# Altium schematic symbol library OT Library.SchLib: 560 symbols (part 4 of 5)
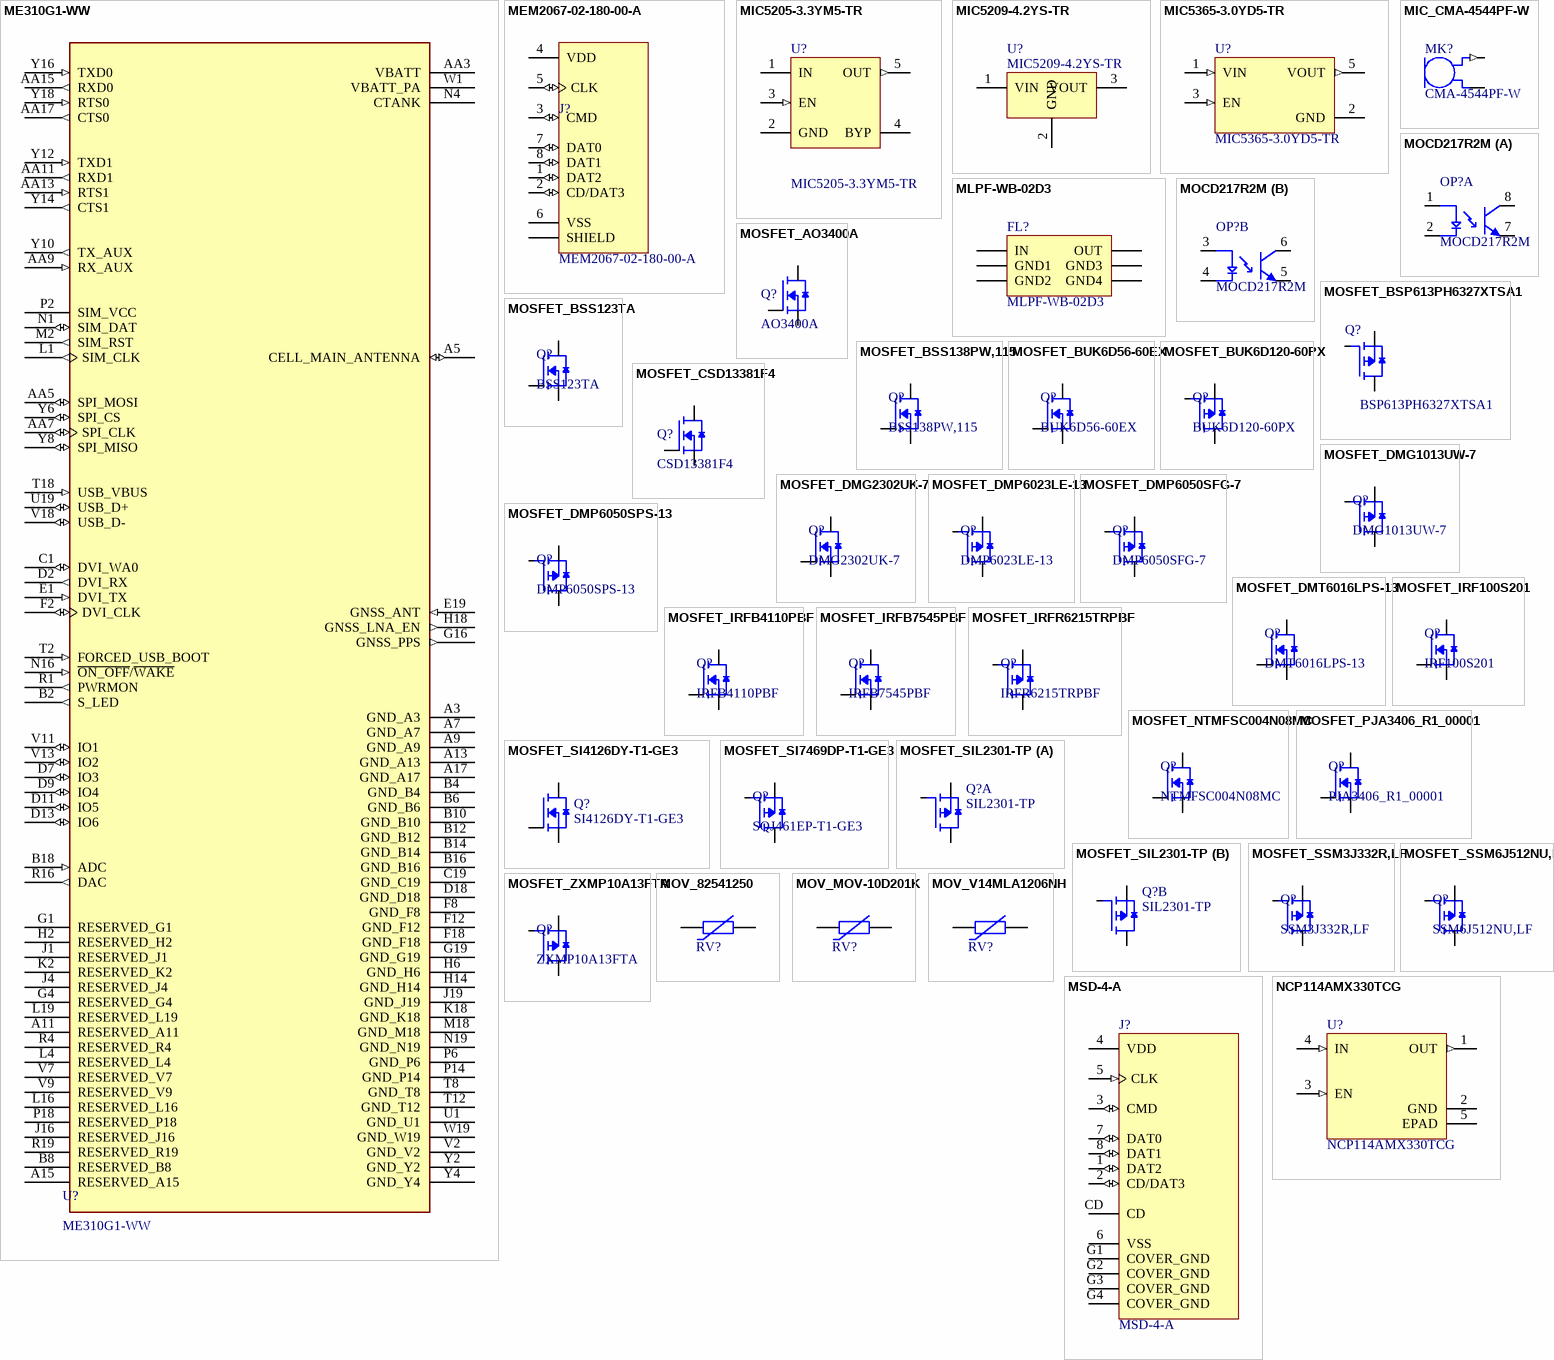
[diagram p21: symbols ME310G1-WW to NCP114AMX330TCG]

## ME310G1-WW
designator U?
LTE-M NB-IoT module Global variant; Manufacturer: Telit; Manufacturer Part Number: ME310G1-WW
footprint XCVR_ME310G1-WW_HW_1.0
pins: A3 GND_A3 (power), A5 CELL_MAIN_ANTENNA (io), A7 GND_A7 (power), A9 GND_A9 (power), A11 RESERVED_A11, A13 GND_A13 (power), A15 RESERVED_A15, A17 GND_A17 (power), AA3 VBATT (power), AA5 SPI_MOSI (io), AA7 SPI_CLK (io), AA9 RX_AUX (in), AA11 RXD1 (out), AA13 RTS1 (in), AA15 RXD0 (out), AA17 CTS0 (out), B2 S_LED (out), B4 GND_B4 (power), B6 GND_B6 (power), B8 RESERVED_B8, B10 GND_B10 (power), B12 GND_B12 (power), B14 GND_B14 (power), B16 GND_B16 (power), B18 ADC (in), C1 DVI_WA0 (io), C19 GND_C19 (power), D2 DVI_RX (out), D7 IO3 (io), D9 IO4 (io), D11 IO5 (io), D13 IO6 (io), D18 GND_D18 (power), E1 DVI_TX (in), E19 GNSS_ANT (in), F2 DVI_CLK (io), F8 GND_F8 (power), F12 GND_F12 (power), F18 GND_F18 (power), G1 RESERVED_G1, G4 RESERVED_G4, G16 GNSS_PPS (out), G19 GND_G19 (power), H2 RESERVED_H2, H6 GND_H6 (power), H14 GND_H14 (power), H18 GNSS_LNA_EN (out), J1 RESERVED_J1, J4 RESERVED_J4, J16 RESERVED_J16, J19 GND_J19 (power), K2 RESERVED_K2, K18 GND_K18 (power), L1 SIM_CLK (out), L4 RESERVED_L4, L16 RESERVED_L16, L19 RESERVED_L19, M2 SIM_RST (out), M18 GND_M18 (power), N1 SIM_DAT (io), N4 CTANK, N16 ~{ON_OFF}/~{WAKE} (in), N19 GND_N19 (power), P2 SIM_VCC (power), P6 GND_P6 (power), P14 GND_P14 (power), P18 RESERVED_P18, R1 PWRMON (out), R4 RESERVED_R4, R16 DAC (out), R19 RESERVED_R19, T2 FORCED_USB_BOOT (in), T8 GND_T8 (power), T12 GND_T12 (power), T18 USB_VBUS (in), U1 GND_U1 (power), U19 USB_D+ (io), V2 GND_V2 (power), V7 RESERVED_V7, V9 RESERVED_V9, V11 IO1 (io), V13 IO2 (io), V18 USB_D- (io), W1 VBATT_PA (power), W19 GND_W19 (power), Y2 GND_Y2 (power), Y4 GND_Y4 (power), Y6 SPI_CS (io), Y8 SPI_MISO (io), Y10 TX_AUX (out), Y12 TXD1 (in), Y14 CTS1 (out), Y16 TXD0 (in), Y18 RTS0 (in)

## MEM2067-02-180-00-A
designator J?
MICRO SD HINGED, SMT, 1.80MM PRO; Manufacturer: GCT; Manufacturer Part Number: MEM2067-02-180-00-A
footprint GCT_MEM2067-02-180-00-A_REVB (Footprint not found)
pins: 1 DAT2 (io), 2 CD/DAT3 (io), 3 CMD (io), 4 VDD (power), 5 CLK (io), 6 VSS (power), 7 DAT0 (io), 8 DAT1 (io), 9 SHIELD, 10 SHIELD, 11 SHIELD, 12 SHIELD

## MIC5205-3.3YM5-TR
designator U?
IC REG LINEAR 3.3V 150MA SOT23-5; Manufacturer: Microchip; LCSC Part: C37970; Manufacturer Part Number: MIC5205-3.3YM5-TR
footprint SOT-23-5 (SC-74A, SOT-753)
pins: 1 IN (power), 2 GND (power), 3 EN (in), 4 BYP, 5 OUT (out)

## MIC5209-4.2YS-TR
designator U?
IC REG LIN 4.2V 500MA SOT-223-3; Manufacturer: Microchip Technology; Manufacturer Part Number: MIC5209-4.2YS-TR; LCSC Part: C638643
footprint SOT-223 (TO-261-4, TO-261AA)
pins: 1 VIN, 2 GND, 3 VOUT, 4 GND

## MIC5365-3.0YD5-TR
designator U?
IC REG LINEAR 3V 150MA TSOT23-5; Manufacturer: Microchip Technology; Manufacturer Part Number: MIC5365-3.0YD5-TR; LCSC Part: C626097
footprint TSOT-23-5 (SOT-23-5 Thin, TSOT-23-5)
pins: 1 VIN (in), 2 GND (power), 3 EN (in), 5 VOUT (out)

## MIC_CMA-4544PF-W
designator MK?, comment CMA-4544PF-W
MIC COND ANLG OMNI -44DB 0.382"D; Manufacturer: Same Sky; Manufacturer Part Number: CMA-4544PF-W; LCSC Part: C22359702
footprint MIC_CMA-4544PF-W
pins: 1 OUT (out), 2 GND (power)

## MLPF-WB-02D3
designator FL?
2.4 GHZ LOW PASS FILTER MATCHED; Manufacturer: STMicroelectronics; Manufacturer Part Number: MLPF-WB-02D3; Datasheet: https://www.st.com/resource/en/datasheet/mlpf-wb-02d3.pdf
footprint MLPFWB02D3
pins: A1 OUT, A2 GND4, A3 IN, B1 GND3, B2 GND2, B3 GND1

## MOCD217R2M
designator OP?
OPTOISO 2.5KV 2CH TRANS 8SOIC; Manufacturer: onsemi; Manufacturer Part Number: MOCD217R2M; LCSC Part: C14315
footprint SOIC-8 (0.154", 3.90mm Width)
part A pins: 1 A, 2 C, 7 ET, 8 CT
part B pins: 3 A, 4 C, 5 ET, 6 CT

## MOSFET_AO3400A
designator Q?, comment AO3400A
MOSFET N-CH 30V 5.7A SOT23-3L; Manufacturer: Alpha & Omega Semiconductor Inc.; Drain to Source Voltage (Vdss): 5.7A (Ta); Manufacturer Part Number: AO3400A; Drain to Source Voltage (Vdss): 30 V; LCSC Part: C20917
footprint SOT-23-3 (TO-236-3, SC-59, SOT-23-3)
pins: 1 G, 2 S, 3 D

## MOSFET_BSP613PH6327XTSA1
designator Q?, comment BSP613PH6327XTSA1
MOSFET P-CH 60V 2.9A SOT223-4; Manufacturer: Infineon Technologies; Manufacturer Part Number: BSP613PH6327XTSA1; LCSC Part: C534578
footprint SOT-223-4 (SOT223, 4-Leads, Body 6.50x7.00mm (avg), Pitch 2.30mm)
pins: 1 G, 2 D, 3 S, 4 D

## MOSFET_BSS123TA
designator Q?, comment BSS123TA
MOSFET N-CH 100V 170MA SOT23-3; Manufacturer: Diodes Incorporated; Current - Continuous Drain (Id) @ 25°C: 170mA(Ta); Manufacturer Part Number: BSS123TA; Drain to Source Voltage (Vdss): 100V; LCSC Part: C435875
footprint SOT-23-3 (TO-236-3, SC-59, SOT-23-3)
pins: 1 G, 2 S, 3 D

## MOSFET_BSS138PW,115
designator Q?, comment BSS138PW,115
MOSFET N-CH 60V 320MA SOT323; Manufacturer: Nexperia USA Inc.; Current - Continuous Drain (Id) @ 25°C: 320mA (Ta); Manufacturer Part Number: BSS138PW,115; Drain to Source Voltage (Vdss): 60 V; LCSC Part: C193366
footprint SOT-323 (SC-70, SOT-323)
pins: 1 G, 2 S, 3 D

## MOSFET_BUK6D56-60EX
designator Q?, comment BUK6D56-60EX
MOSFET N-CH 60V 4A/11A 6DFN; Manufacturer: Nexperia USA Inc.; Current - Continuous Drain (Id) @ 25°C: 4A (Ta), 11A (Tc); Manufacturer Part Number: BUK6D56-60EX; Drain to Source Voltage (Vdss): 60 V; Datasheet: https://assets.nexperia.com/documents/data-sheet/BUK6D56-60E.pdf
footprint 6-UDFN (DFN2020MD-6)
pins: 1 D, 2 D, 3 G, 4 S, 5 D, 6 D, 7 D, 8 S

## MOSFET_BUK6D120-60PX
designator Q?, comment BUK6D120-60PX
MOSFET P-CH 60V 3A/8A 6DFN; Manufacturer: Nexperia USA Inc.; Drain to Source Voltage (Vdss): 3A (Ta), 8A (Tc); Manufacturer Part Number: BUK6D120-60PX; Drain to Source Voltage (Vdss): 60V
footprint 6-UDFN (DFN2020MD-6)
pins: 1 D, 2 D, 3 G, 4 S, 5 D, 6 D, 7 D, 8 S

## MOSFET_CSD13381F4
designator Q?, comment CSD13381F4
MOSFET N-CH 12V 2.1A 3PICOSTAR; Manufacturer: Texas Instruments; Drain to Source Voltage (Vdss): 2.1A (Ta); Manufacturer Part Number: CSD13381F4; Drain to Source Voltage (Vdss): 12 V; LCSC Part: C179868
footprint 3-PICOSTAR (3-XFDFN)
pins: 1 G, 2 S, 3 D

## MOSFET_DMG1013UW-7
designator Q?, comment DMG1013UW-7
MOSFET P-CH 20V 820MA SOT323; Manufacturer: Diodes Incorporated; Drain to Source Voltage (Vdss): 820mA (Ta); Manufacturer Part Number: DMG1013UW-7; Drain to Source Voltage (Vdss): 20 V; LCSC Part: C211434
footprint SOT-323 (SC-70, SOT-323)
pins: 1 G, 2 S, 3 D

## MOSFET_DMG2302UK-7
designator Q?, comment DMG2302UK-7
MOSFET N-CH 20V 2.8A SOT23; Manufacturer: Diodes Incorporated; Current - Continuous Drain (Id) @ 25°C: 2.8A (Ta); Manufacturer Part Number: DMG2302UK-7; Drain to Source Voltage (Vdss): 20V; LCSC Part: C460977
footprint SOT-23 (TO-236AB)
pins: 1 G, 2 S, 3 D

## MOSFET_DMP6023LE-13
designator Q?, comment DMP6023LE-13
MOSFET P-CH 60V 7A/18.2A SOT223; Manufacturer: Diodes Incorporated; Current - Continuous Drain (Id) @ 25°C: 7A (Tc); Manufacturer Part Number: DMP6023LE-13; Drain to Source Voltage (Vdss): 60V; LCSC Part: C154901
footprint SOT-223 (TO-261-4, TO-261AA)
pins: 1 G, 2 D, 3 S, 4 D

## MOSFET_DMP6050SFG-7
designator Q?, comment DMP6050SFG-7
MOSFET P-CH 60V 4.8A PWRDI3333-8; Manufacturer: Diodes Incorporated; Drain to Source Voltage (Vdss): 4.8A (Ta); Manufacturer Part Number: DMP6050SFG-7; Drain to Source Voltage (Vdss): 60 V; LCSC Part: C3279391
footprint 8-PowerVDFN (POWERDI3333-8)
pins: 1 S, 2 S, 3 S, 4 G, 5_6_7_8 D

## MOSFET_DMP6050SPS-13
designator Q?, comment DMP6050SPS-13
MOSFET P-CH 60V 5.7A PWRDI5060-8; Manufacturer: Diodes Incorporated; Drain to Source Voltage (Vdss): 5.7A (Ta); Manufacturer Part Number: DMP6050SPS-13; Drain to Source Voltage (Vdss): 60 V; LCSC Part: C3279412
footprint 8-PowerTDFN (PowerDI5060-8)
pins: 1 S, 2 S, 3 S, 4 G, 5_6_7_8 D

## MOSFET_DMT6016LPS-13
designator Q?, comment DMT6016LPS-13  (mechanical)
MOSFET N-CH 60V 10.6A PWRDI5060; Manufacturer: Diodes Incorporated; Current - Continuous Drain (Id) @ 25°C: 10.6A (Ta); Manufacturer Part Number: DMT6016LPS-13; Drain to Source Voltage (Vdss): 60 V; LCSC Part: C460055
footprint 8-PowerTDFN (PowerDI5060-8)
pins: 1 S, 2 S, 3 S, 4 G, 5_6_7_8 D

## MOSFET_IRF100S201
designator Q?, comment IRF100S201
MOSFET N-CH 100V 192A D2PAK; Manufacturer: Infineon Technologies; Drain to Source Voltage (Vdss): 100; Current - Continuous Drain (Id) @ 25°C: 192A (Tc); Manufacturer Part Number: IRF100S201; LCSC Part: C459928
footprint PG-TO263-3 (TO-263-3, D2PAK (2 Leads + Tab), TO-263AB)
pins: 1 G, 2 D, 3 S

## MOSFET_IRFB4110PBF
designator Q?, comment IRFB4110PBF
MOSFET N-CH 100V 120A TO220AB; Manufacturer: Infineon Technologies; Current - Continuous Drain (Id) @ 25°C: 120A (Tc); Manufacturer Part Number: IRFB4110PBF; Drain to Source Voltage (Vdss): 100V; LCSC Part: C2650
footprint TO-220-3 (TO-220AB)
pins: 1 G, 2 D, 3 S

## MOSFET_IRFB7545PBF
designator Q?, comment IRFB7545PBF
MOSFET N-CH 60V 95A TO220; Manufacturer: Infineon Technologies; Current - Continuous Drain (Id) @ 25°C: 95A (Tc); Manufacturer Part Number: IRFB7545PBF; Drain to Source Voltage (Vdss): 60V; LCSC Part: C2997913
footprint TO-220-3 (TO-220AB)
pins: 1 G, 2 D, 3 S

## MOSFET_IRFR6215TRPBF
designator Q?, comment IRFR6215TRPBF
MOSFET P-CH 150V 13A DPAK; Manufacturer: Infineon Technologies; Drain to Source Voltage (Vdss): 13A (Tc); Manufacturer Part Number: IRFR6215TRPBF; Drain to Source Voltage (Vdss): 150V; LCSC Part: C150936
footprint TO-252AA (TO-252-3, DPAK (2 Leads + Tab), SC-63)
pins: 1 G, 2 D, 3 S

## MOSFET_NTMFSC004N08MC
designator Q?, comment NTMFSC004N08MC
MOSFET N-CH 80V 86A/136A 8DFN; Manufacturer: onsemi; Current - Continuous Drain (Id) @ 25°C: 86A(Ta) 136(Tc); Manufacturer Part Number: NTMFSC004N08MC; Drain to Source Voltage (Vdss): 80 V; Datasheet: https://www.onsemi.com/pdf/datasheet/ntmfsc004n08mc-d.pdf
footprint 8-DFN (5x6.15) (8-PowerVDFN)
pins: 1 S, 2 S, 3 S, 4 G, 5 D, 6 D, 7 D, 8 D

## MOSFET_PJA3406_R1_00001
designator Q?, comment PJA3406_R1_00001
MOSFET N-CH 30V 4.4A SOT23-3; Manufacturer: Panjit International Inc.; Current - Continuous Drain (Id) @ 25°C: 4.4A (Ta); Manufacturer Part Number: PJA3406_R1_00001; Drain to Source Voltage (Vdss): 30V
footprint SOT-23-3 (TO-236-3, SC-59, SOT-23-3)
pins: 1 G, 2 S, 3 D

## MOSFET_SI4126DY-T1-GE3
designator Q?, comment SI4126DY-T1-GE3  (mechanical)
MOSFET N-CH 30V 39A 8-SOIC; Manufacturer: Vishay Siliconix; Current - Continuous Drain (Id) @ 25°C: 39A (Tc); Manufacturer Part Number: SI4126DY-T1-GE3; Drain to Source Voltage (Vdss): 30 V; LCSC Part: C143747
footprint SOIC-8 (0.154", 3.90mm Width)
pins: 1 S, 2 S, 3 S, 4 G, 5 D, 6 D, 7 D, 8 D

## MOSFET_SI7469DP-T1-GE3
designator Q?, comment SQJ461EP-T1-GE3
MOSFET P-CH 80V 28A PPAK SO-8; Manufacturer: Vishay Siliconix; Drain to Source Voltage (Vdss): 28A(Tc); Manufacturer Part Number: SQJ461EP-T1-GE3; Drain to Source Voltage (Vdss): 80V
footprint PowerPAK SO-8
pins: 1 S, 2 S, 3 S, 4 G, 5 D, 6 D, 7 D, 8 D, 9 D

## MOSFET_SIL2301-TP
designator Q?, comment SIL2301-TP
MOSFET P-CH 20V 2.3A SOT23-6L PACKA; Manufacturer: Micro Commercial Co; Manufacturer Part Number: SIL2301-TP; Drain to Source Voltage (Vdss): 20V; Drain to Source Voltage (Vdss): 2.3 A
footprint SOT-23-6
part A pins: 1 G, 5 S, 6 D
part B pins: 2 S, 3 G, 4 D

## MOSFET_SSM3J332R,LF
designator Q?, comment SSM3J332R,LF
MOSFET P-CH 30V 6A SOT23F; Manufacturer: Toshiba Semiconductor and Storage; Drain to Source Voltage (Vdss): 6A (Ta); Manufacturer Part Number: SSM3J332R,LF; Drain to Source Voltage (Vdss): 30 V; LCSC Part: C146367
footprint SOT-23F (SOT-23-3 Flat Leads)
pins: 1 G, 2 S, 3 D

## MOSFET_SSM6J512NU,LF
designator Q?, comment SSM6J512NU,LF
MOSFET P-CH 12V 10A 6UDFNB; Manufacturer: Toshiba Semiconductor and Storage; Manufacturer Part Number: SSM6J512NU,LF; LCSC Part: C7320745
footprint 6-UDFNB (6-WDFN Exposed Pad)
pins: 1 D, 2 D, 3 G, 4 S, 5 D, 6 D, 7 D, 8 S

## MOSFET_ZXMP10A13FTA
designator Q?, comment ZXMP10A13FTA
MOSFET P-CH 100V 600MA SOT23-3; Manufacturer: Diodes Incorporated; Drain to Source Voltage (Vdss): 600mA (Ta); Manufacturer Part Number: ZXMP10A13FTA; Drain to Source Voltage (Vdss): 100 V; LCSC Part: C50185
footprint SOT-23-3 (TO-236-3, SC-59, SOT-23-3)
pins: 1 G, 2 S, 3 D

## MOV_82541250
designator RV?, comment 82541250  (value not drawn)
VARISTOR 39V 200A 1206; Manufacturer: Wurth Elektronik; Maximum AC Volts: 25V; Maximum DC Volts: 30V; Manufacturer Part Number: 82541250; Varistor Voltage (Typ): 39V; Current - Surge: 200A
footprint MOV_1206 (SMD Varistor, 2-Leads, body 3.20x1.60mm)
pins: 1, 2

## MOV_MOV-10D201K
designator RV?, comment MOV-10D201K  (value not drawn)
VARISTOR 200V 2.5KA DISC 10MM; Manufacturer: Bourns Inc.; Manufacturer Part Number: MOV-10D201K
footprint DISC-10 (Disc 10mm)
pins: 1, 2

## MOV_V14MLA1206NH
designator RV?, comment V14MLA1206NH  (value not drawn)
VARISTOR 18.1V 150A 1206; Manufacturer: Littelfuse Inc.; Maximum AC Volts: 10V; Maximum DC Volts: 14V; Manufacturer Part Number: V14MLA1206NH; Varistor Voltage (Typ): 18.1V; Current - Surge: 150A
footprint MOV_1206 (SMD Varistor, 2-Leads, body 3.20x1.60mm)
pins: 1, 2

## MSD-4-A
designator J?
MICRO SD CARD CONNECTOR, 9 POSIT; Manufacturer: CUI Devices; Manufacturer Part Number: MSD-4-A
footprint CUI_MSD-4-A
pins: 1 DAT2 (io), 2 CD/DAT3 (io), 3 CMD (io), 4 VDD (power), 5 CLK (in), 6 VSS (power), 7 DAT0 (io), 8 DAT1 (io), CD, G1 COVER_GND (power), G2 COVER_GND (power), G3 COVER_GND (power), G4 COVER_GND (power)

## NCP114AMX330TCG
designator U?
IC REG LINEAR 3.3V 300MA 4UDFN; Manufacturer: ON Semiconductor; Manufacturer Part Number: NCP114AMX330TCG; LCSC Part: C133056
footprint 4-UDFN Exposed Pad (4-UDFN (1.0x1.0))
pins: 1 OUT (out), 2 GND (power), 3 EN (in), 4 IN (in), 5 EPAD

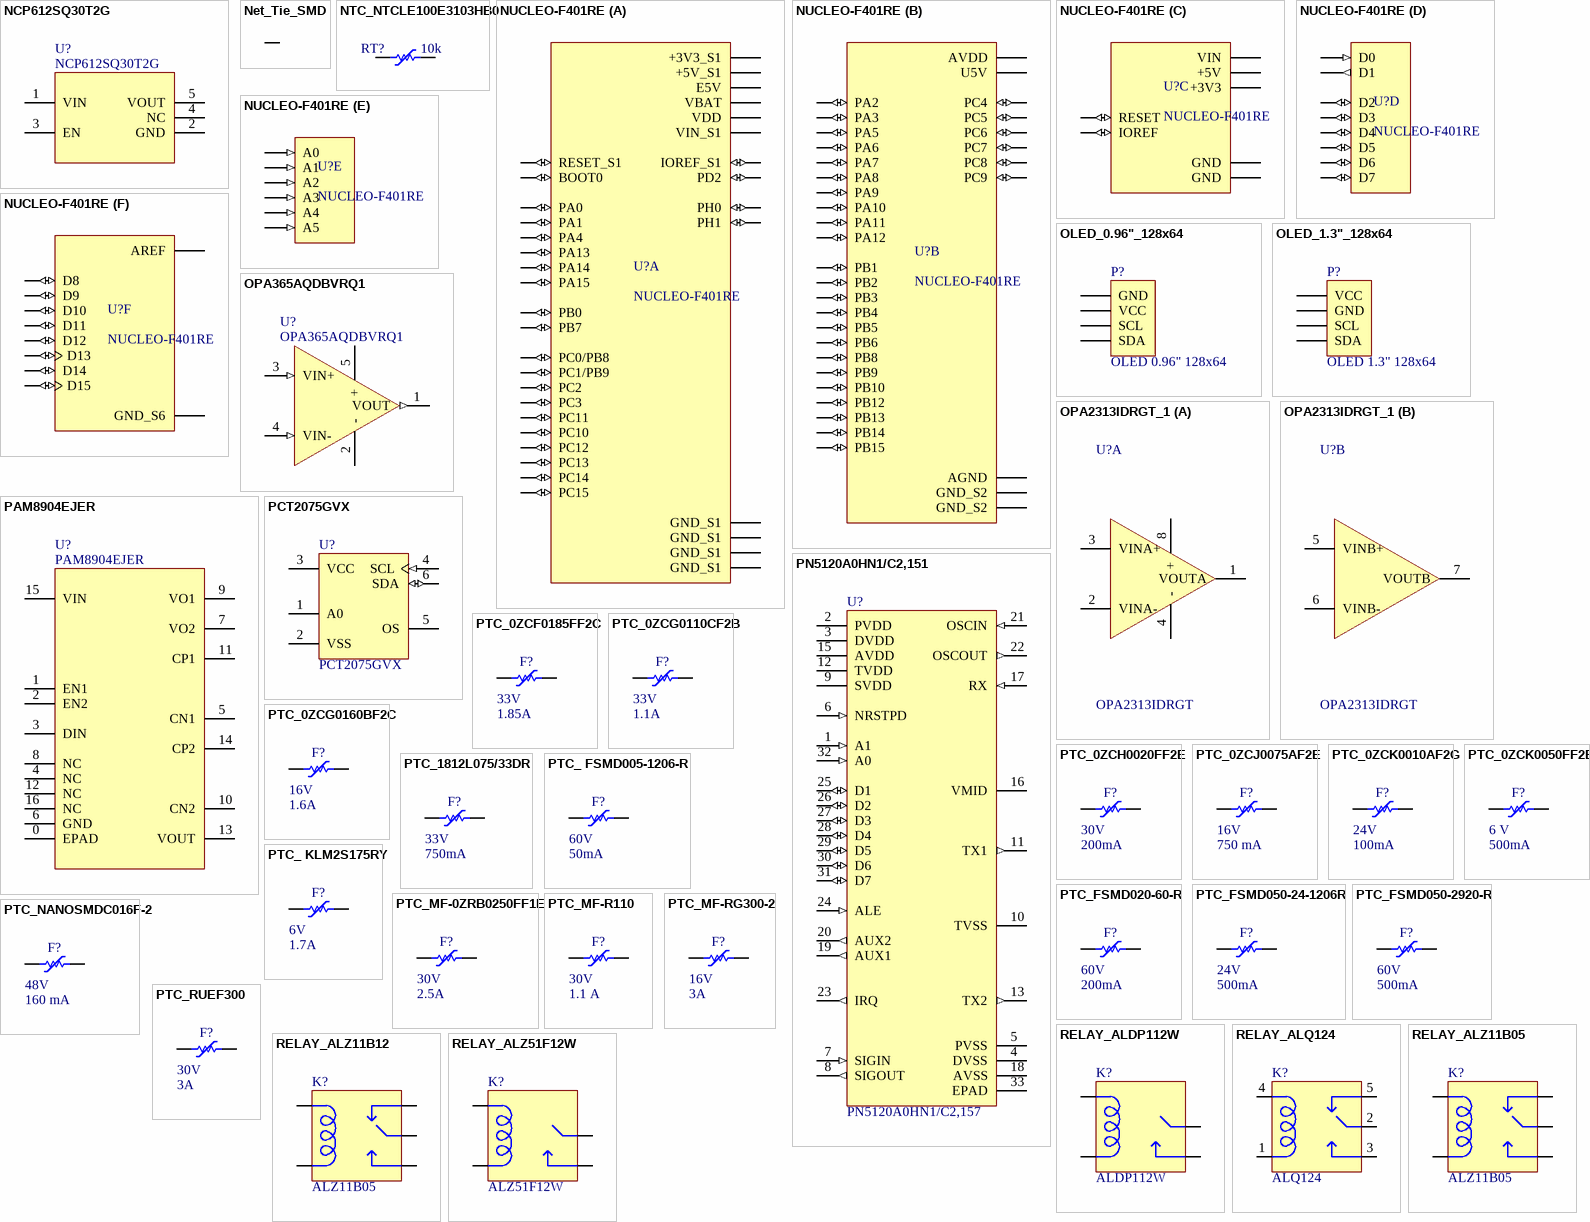
[diagram p15: symbols NCP612SQ30T2G to RELAY_ALZ51F12W]

## NCP612SQ30T2G
designator U?
IC REG LINEAR 3V 100MA SC88A; Manufacturer: ON Semiconductor; Manufacturer Part Number: NCP612SQ30T2G; LCSC Part: C463355
footprint SC-70-5 (Footprint not found)
pins: 1 VIN, 2 GND, 3 EN, 4 NC, 5 VOUT

## Net_Tie_SMD
designator NET?, comment Net Tie  (value not drawn)  (net tie)
footprint NET_TIE_SMD
pins: 1, 2

## NTC_NTCLE100E3103HB0
designator RT?, comment Resistance in Ohms @ 25°C: 10k  (hidden comment: NTCLE100E3103HB0)
THERMISTOR NTC 10KOHM 3977K BEAD; Manufacturer: Vishay Beyschlag/Draloric/BC Components; Manufacturer Part Number: NTCLE100E3103HB0; Datasheet: https://www.vishay.com/docs/29049/ntcle100.pdf
footprint NTCLE100E3103HB0
pins: 1, 2

## NUCLEO-F401RE
designator U?
NUCLEO-64 STM32F401RE EVAL BRD; Manufacturer: STMicroelectronics; Manufacturer Part Number: NUCLEO-F401RE
footprint ST_NUCLEO-F401RE
part A pins: 7_1 PC10 (io), 7_2 PC11 (io), 7_3 PC12 (io), 7_4 PD2 (io), 7_5 VDD (power), 7_6 E5V (power), 7_7 BOOT0 (io), 7_8 GND_S1 (power), 7_12 IOREF_S1 (io), 7_13 PA13 (io), 7_14 RESET_S1 (io), 7_15 PA14 (io), 7_16 +3V3_S1 (power), 7_17 PA15 (io), 7_18 +5V_S1 (power), 7_19 GND_S1 (power), 7_20 GND_S1 (power), 7_21 PB7 (io), 7_22 GND_S1 (power), 7_23 PC13 (io), 7_24 VIN_S1 (power), 7_25 PC14 (io), 7_27 PC15 (io), 7_28 PA0 (io), 7_29 PH0 (io), 7_30 PA1 (io), 7_31 PH1 (io), 7_32 PA4 (io), 7_33 VBAT (power), 7_34 PB0 (io), 7_35 PC2 (io), 7_36 PC1/PB9 (io), 7_37 PC3 (io), 7_38 PC0/PB8 (io)
part B pins: 10_1 PC9 (io), 10_2 PC8 (io), 10_3 PB8 (io), 10_4 PC6 (io), 10_5 PB9 (io), 10_6 PC5 (io), 10_7 AVDD (power), 10_8 U5V (power), 10_9 GND_S2 (power), 10_11 PA5 (io), 10_12 PA12 (io), 10_13 PA6 (io), 10_14 PA11 (io), 10_15 PA7 (io), 10_16 PB12 (io), 10_17 PB6 (io), 10_19 PC7 (io), 10_20 GND_S2 (power), 10_21 PA9 (io), 10_22 PB2 (io), 10_23 PA8 (io), 10_24 PB1 (io), 10_25 PB10 (io), 10_26 PB15 (io), 10_27 PB4 (io), 10_28 PB14 (io), 10_29 PB5 (io), 10_30 PB13 (io), 10_31 PB3 (io), 10_32 AGND (power), 10_33 PA10 (io), 10_34 PC4 (io), 10_35 PA2 (io), 10_37 PA3 (io)
part C pins: 6_2 IOREF (io), 6_3 RESET (io), 6_4 +3V3 (power), 6_5 +5V (power), 6_6 GND (power), 6_7 GND (power), 6_8 VIN (power)
part D pins: 9_1 D0 (in), 9_2 D1 (out), 9_3 D2 (io), 9_4 D3 (io), 9_5 D4 (io), 9_6 D5 (io), 9_7 D6 (io), 9_8 D7 (io)
part E pins: 8_1 A0 (in), 8_2 A1 (in), 8_3 A2 (in), 8_4 A3 (in), 8_5 A4 (in), 8_6 A5 (in)
part F pins: 5_1 D8 (io), 5_2 D9 (io), 5_3 D10 (io), 5_4 D11 (io), 5_5 D12 (io), 5_6 D13 (io), 5_7 GND_S6 (power), 5_8 AREF (power), 5_9 D14 (io), 5_10 D15 (io)

## OLED_0.96"_128x64
designator P?, comment OLED 0.96" 128x64
OLED 128x64 0.96" I2C; Manufacturer Part Number: 128x64 0.96 inç OLED Grafik Ekran 4 Pin IS-I2C; Manufacturer: DirencNet; Link: https://www.direnc.net/128x64-oled-4pin-is-spi-lcd-display
footprint Header 1x4 male (2.54mm)
footprint OLED_0.96"_128x64
pins: 1 GND, 2 VCC, 3 SCL, 4 SDA

## OLED_1.3"_128x64
designator P?, comment OLED 1.3" 128x64
OLED 128x64 1.3" I2C; Manufacturer Part Number: 128x64 1.3 inç OLED Grafik Ekran 4 Pin IS-I2C; Manufacturer: DirencNet; Link: https://www.direnc.net/128x64-1-3-inch-oled-grafik-ekran-i2c
footprint Header 1x4 male (2.54mm)
footprint OLED_1.3"_128x64
pins: 1 VCC, 2 GND, 3 SCL, 4 SDA

## OPA365AQDBVRQ1
designator U?
IC OPAMP GP 1 CIRCUIT SOT23-5; Manufacturer: Texas Instruments; Manufacturer Part Number: OPA365AQDBVRQ1; LCSC Part: C485978
footprint SOT-23-5 (SC-74A, SOT-753)
pins: 1 VOUT (out), 2 - (power), 3 VIN+ (in), 4 VIN- (in), 5 + (power)

## OPA2313IDRGT_1
designator U?, comment OPA2313IDRGT
IC OPAMP GP 2 CIRCUIT 8SON; Manufacturer: Texas Instruments; Manufacturer Part Number: OPA2313IDRGT
footprint 8-WFDFN (3x3) Exposed Pad (8-SON (3x3))
part A pins: 1 VOUTA, 2 VINA-, 3 VINA+, 4 -, 8 +
part B pins: 5 VINB+, 6 VINB-, 7 VOUTB

## PAM8904EJER
designator U?
IC PIEZO SOUNDER DRVR 16UQFN; Manufacturer: Diodes; Manufacturer Part Number: PAM8904EJER; LCSC Part: C510549
footprint 16-UFQFN Exposed Pad
pins: 0 EPAD, 1 EN1, 2 EN2, 3 DIN, 4 NC, 5 CN1, 6 GND, 7 VO2, 8 NC, 9 VO1, 10 CN2, 11 CP1, 12 NC, 13 VOUT, 14 CP2, 15 VIN, 16 NC

## PCT2075GVX
designator U?
SENSOR DIGITAL -55C-125C 6TSOP; Manufacturer: NXP USA Inc.; Manufacturer Part Number: PCT2075GVX
footprint 6-TSOP (SC-74, SOT-457)
pins: 1 A0, 2 VSS (power), 3 VCC (power), 4 SCL (in), 5 OS, 6 SDA (io)

## PN5120A0HN1/C2,151
designator U?, comment PN5120A0HN1/C2,157
IC RFID RDR/TRAN 13.56MZ 32HVQFN; Manufacturer: NXP USA Inc.; Manufacturer Part Number: PN5120A0HN1/C2,157
footprint 32-VFQFN Exposed Pad (32-HVQFN (5x5))
pins: 1 A1 (in), 2 PVDD (power), 3 DVDD (power), 4 DVSS, 5 PVSS, 6 NRSTPD (in), 7 SIGIN (in), 8 SIGOUT (out), 9 SVDD (power), 10 TVSS (power), 11 TX1 (out), 12 TVDD (power), 13 TX2 (out), 14 TVSS_2 (power) hidden, 15 AVDD (power), 16 VMID (power), 17 RX (in), 18 AVSS (power), 19 AUX1 (out), 20 AUX2 (out), 21 OSCIN (in), 22 OSCOUT (out), 23 IRQ (out), 24 ALE (in), 25 D1 (io), 26 D2 (io), 27 D3 (io), 28 D4 (io), 29 D5 (io), 30 D6 (io), 31 D7 (io), 32 A0 (in), 33 EPAD

## PTC_0ZCF0185FF2C
designator F?, comment Voltage - Max: 33V  Current - Hold (Ih) (Max): 1.85A  (hidden comment: 0ZCF0185FF2C)
PTC RESET FUSE 33V 1.85A 2920; Manufacturer: Bel Fuse Inc.; Manufacturer Part Number: 0ZCF0185FF2C; Datasheet: https://www.belfuse.com/resources/datasheets/circuitprotection/ds-cp-0zcf-series.pdf; LCSC Part: C70139
footprint PTC_2920 (2920 SMT PPTC)
pins: 1, 2

## PTC_0ZCG0110CF2B
designator F?, comment Voltage - Max: 33V  Current - Hold (Ih) (Max): 1.1A  (hidden comment: 0ZCG0110CF2B)
PTC RESET FUSE 33V 1.1A 1812; Manufacturer: Bel Fuse Inc.; Manufacturer Part Number: 0ZCG0110CF2B
footprint PTC_1812 (0.179" L x 0.128" W (4.55mm x 3.24mm))
pins: 1, 2

## PTC_0ZCG0160BF2C
designator F?, comment Voltage - Max: 16V  Current - Hold (Ih) (Max): 1.6A  (hidden comment: 0ZCG0160BF2C)
PTC RESET FUSE 16V 1.6A 1812; Manufacturer: Bel Fuse Inc.; Manufacturer Part Number: 0ZCG0160BF2C; LCSC Part: C3762509
footprint PTC_1812 (0.179" L x 0.128" W (4.55mm x 3.24mm))
pins: 1, 2

## PTC_0ZCH0020FF2E
designator F?, comment Voltage - Max: 30V  Current - Hold (Ih) (Max): 200mA  (hidden comment: 0ZCH0020FF2E)
PTC RESET FUSE 30V 200MA 1210; Manufacturer: Bel Fuse Inc.; Manufacturer Part Number: 0ZCH0020FF2E; Datasheet: https://www.belfuse.com/resources/datasheets/circuitprotection/ds-cp-0zch-series.pdf
footprint PTC_1210 (0.127" L x 0.102" W (3.22mm x 2.58mm))
pins: 1, 2

## PTC_0ZCJ0075AF2E
designator F?, comment Voltage - Max: 16V  Current - Hold (Ih) (Max): 750 mA  (hidden comment: 0ZCJ0075AF2E)
PTC RESET FUSE 16V 750MA 1206; Manufacturer: Bel Fuse Inc.; Manufacturer Part Number: 0ZCJ0075AF2E; LCSC Part: C3761319
footprint PTC_1206 (0.126" L x 0.063" W (3.20mm x 1.60mm))
pins: 1, 2

## PTC_0ZCK0010AF2G
designator F?, comment Voltage - Max: 24V  Current - Hold (Ih) (Max): 100mA  (hidden comment: 0ZCK0010AF2G)
PTC RESET FUSE 24V 100MA 0805; Manufacturer: Bel Fuse Inc.; Manufacturer Part Number: 0ZCK0010AF2G; LCSC Part: C6355700
footprint PTC_0805
pins: 1, 2

## PTC_0ZCK0050FF2E
designator F?, comment Voltage - Max: 6 V  Current - Hold (Ih) (Max): 500mA  (hidden comment: 0ZCK0050FF2E)
PTC RESET FUSE 6V 500MA 0805; Manufacturer: Bel Fuse Inc.; Manufacturer Part Number: 0ZCK0050FF2E; Datasheet: https://www.belfuse.com/resources/datasheets/circuitprotection/ds-cp-0zck-series.pdf
footprint PTC_0805
pins: 1, 2

## PTC_1812L075/33DR
designator F?, comment Voltage - Max: 33V  Current - Hold (Ih) (Max): 750mA  (hidden comment: 1812L075/33DR)
PTC RESET FUSE 33V 750MA 1812; Manufacturer: Bel Fuse Inc.; Manufacturer Part Number: 1812L075/33DR; LCSC Part: C151170
footprint PTC_1812 (0.179" L x 0.128" W (4.55mm x 3.24mm))
pins: 1, 2

## PTC_ FSMD005-1206-R
designator F?, comment Voltage - Max: 60V  Current - Hold (Ih) (Max): 50mA  (hidden comment: FSMD005-1206-R)
PTC RESET FUSE 60V 50MA 1206; Manufacturer: Bel Fuse Inc.; Manufacturer Part Number: FSMD005-1206-R
footprint PTC_1206 (0.126" L x 0.063" W (3.20mm x 1.60mm))
pins: 1, 2

## PTC_ KLM2S175RY
designator F?, comment Voltage - Max: 6V  Current - Hold (Ih) (Max): 1.7A  (hidden comment: KLM2S175RY)
PTC RESET FUSE 6V 1.7A 0805; Manufacturer: Bel Fuse Inc.; Manufacturer Part Number: KLM2S175RY
footprint PTC_0805
pins: 1, 2

## PTC_FSMD020-60-R
designator F?, comment Voltage - Max: 60V  Current - Hold (Ih) (Max): 200mA  (hidden comment: FSMD020-60-R)
PTC RESET FUSE 60V 200MA 1812; Manufacturer: Fuzetec; Manufacturer Part Number: FSMD020-60-R
footprint PTC_1812 (0.179" L x 0.128" W (4.55mm x 3.24mm))
pins: 1, 2

## PTC_FSMD050-24-1206R
designator F?, comment Voltage - Max: 24V  Current - Hold (Ih) (Max): 500mA  (hidden comment: FSMD050-24-1206R)
PTC RESET FUSE 24V 500MA 1206; Manufacturer: Bel Fuse Inc.; Manufacturer Part Number: FSMD050-24-1206R
footprint PTC_1206 (0.126" L x 0.063" W (3.20mm x 1.60mm))
pins: 1, 2

## PTC_FSMD050-2920-R
designator F?, comment Voltage - Max: 60V  Current - Hold (Ih) (Max): 500mA  (hidden comment: FSMD050-2920-R)
PTC RESET FUSE 60V 500MA 2920; Manufacturer: Fuzetec; Manufacturer Part Number: FSMD050-2920-R
footprint PTC_2920 (2920 SMT PPTC)
pins: 1, 2

## PTC_MF-0ZRB0250FF1E
designator F?, comment Voltage - Max: 30V  Current - Hold (Ih) (Max): 2.5A  (hidden comment: 0ZRB0250FF1E)
PTC RESET FUSE 30V 2.5A RADIAL; Manufacturer: Bel Fuse Inc.; Manufacturer Part Number: 0ZRB0250FF1E; LCSC Part: C3761262
footprint PTC_DISC110 (Tyco_RKEF110)
pins: 1, 2

## PTC_MF-R110
designator F?, comment Voltage - Max: 30V  Current - Hold (Ih) (Max): 1.1 A  (hidden comment: MF-R110)
PTC RESET FUSE 30V 1.1A RADIAL; Manufacturer: Bourns Inc.; Manufacturer Part Number: MF-R110; LCSC Part: C208481
footprint PTC_DISC110 (Tyco_RKEF110)
pins: 1, 2

## PTC_MF-RG300-2
designator F?, comment Voltage - Max: 16V  Current - Hold (Ih) (Max): 3A  (hidden comment: FRG300-16F)
PTC RESET FUSE 16V 3A RADIAL; Manufacturer: RFE/Fuzetec; Manufacturer Part Number: FRG300-16F; LCSC Part: C2687068
footprint PTC_7.1x3.0x5.1 (0.280" L x 0.118" W (7.10mm x 3.00mm))
pins: 1, 2

## PTC_NANOSMDC016F-2
designator F?, comment Voltage - Max: 48V  Current - Hold (Ih) (Max): 160 mA  (hidden comment: NANOSMDC016F-2)
PTC RESET FUSE 48V 160MA 1206; Manufacturer: Littelfuse Inc.; Manufacturer Part Number: NANOSMDC016F-2; Datasheet: https://www.belfuse.com/resources/datasheets/circuitprotection/ds-cp-0zcf-series.pdf
footprint PTC_1206 (0.126" L x 0.063" W (3.20mm x 1.60mm))
pins: 1, 2

## PTC_RUEF300
designator F?, comment Voltage - Max: 30V  Current - Hold (Ih) (Max): 3A  (hidden comment: RUEF300)
PTC RESET FUSE 30V 3A RADIAL; Manufacturer: Littelfuse Inc.; Manufacturer Part Number: RUEF300; LCSC Part: C315961
footprint PTC_DISC160 (LittleFuse_RKEF160)
pins: 1, 2

## RELAY_ALDP112W
designator K?, comment ALDP112W
RELAY GEN PURPOSE SPST 5A 12V; Manufacturer: Panasonic Electric Works; Coil Voltage: 12VDC; Contact Form: SPST-NO (1 Form A); Switching Voltage: 277VAC - Max; Manufacturer Part Number: ALDP112W; Contact Rating (Current): 5A; LCSC Part: C115718
footprint RELAY_ALDP11
pins: 1 C1, 2 C2, 3 C, 4 NO

## RELAY_ALQ124
designator K?, comment ALQ124
RELAY GEN PURPOSE SPDT 10A 24V; Manufacturer: Panasonic Electric Works; Coil Voltage: 24VDC; Contact Form: SPDT (1 Form C); Switching Voltage: 250VAC - Max; Manufacturer Part Number: ALQ124; Contact Rating (Current): 10A
footprint RELAY_ALQ105
pins: 1 C2, 2 C, 3 NO, 4 C1, 5 NC

## RELAY_ALZ11B05
designator K?, comment ALZ11B05
RELAY GEN PURPOSE SPDT 16A 5V; Manufacturer: Panasonic Electric Works; Coil Voltage: 5VDC; Contact Form: SPDT (1 Form C); Switching Voltage: 440VAC - Max; Manufacturer Part Number: ALZ11B05; Contact Rating (Current): 16A
footprint RELAY_ALZ_C
pins: 1 C1, 2 NC, 3 C, 4 NO, 5 NO, 6 C, 7 NC, 8 C2

## RELAY_ALZ11B12
designator K?, comment ALZ11B05
RELAY GEN PURPOSE SPDT 16A 12V; Manufacturer: Panasonic Electric Works; Coil Voltage: 12VDC; Contact Form: SPDT (1 Form C); Switching Voltage: 440VAC - Max; Manufacturer Part Number: ALZ11B05; Contact Rating (Current): 16A
footprint RELAY_ALZ_C
pins: 1 NO, 2 C, 3 NC, 4 C1, 5 C2, 6 NC, 7 C, 8 NO

## RELAY_ALZ51F12W
designator K?, comment ALZ51F12W
RELAY GEN PURPOSE SPST 16A 12V; Manufacturer: Panasonic Electric Works; Coil Voltage: 12VDC; Contact Form: SPST-NO (1 Form A); Switching Voltage: 440VAC - Max; Manufacturer Part Number: ALZ51F12W; Contact Rating (Current): 16A
footprint RELAY_ALZ_A
pins: 1 C, 2 NO, 3 C1, 4 C2, 5 NO, 6 C

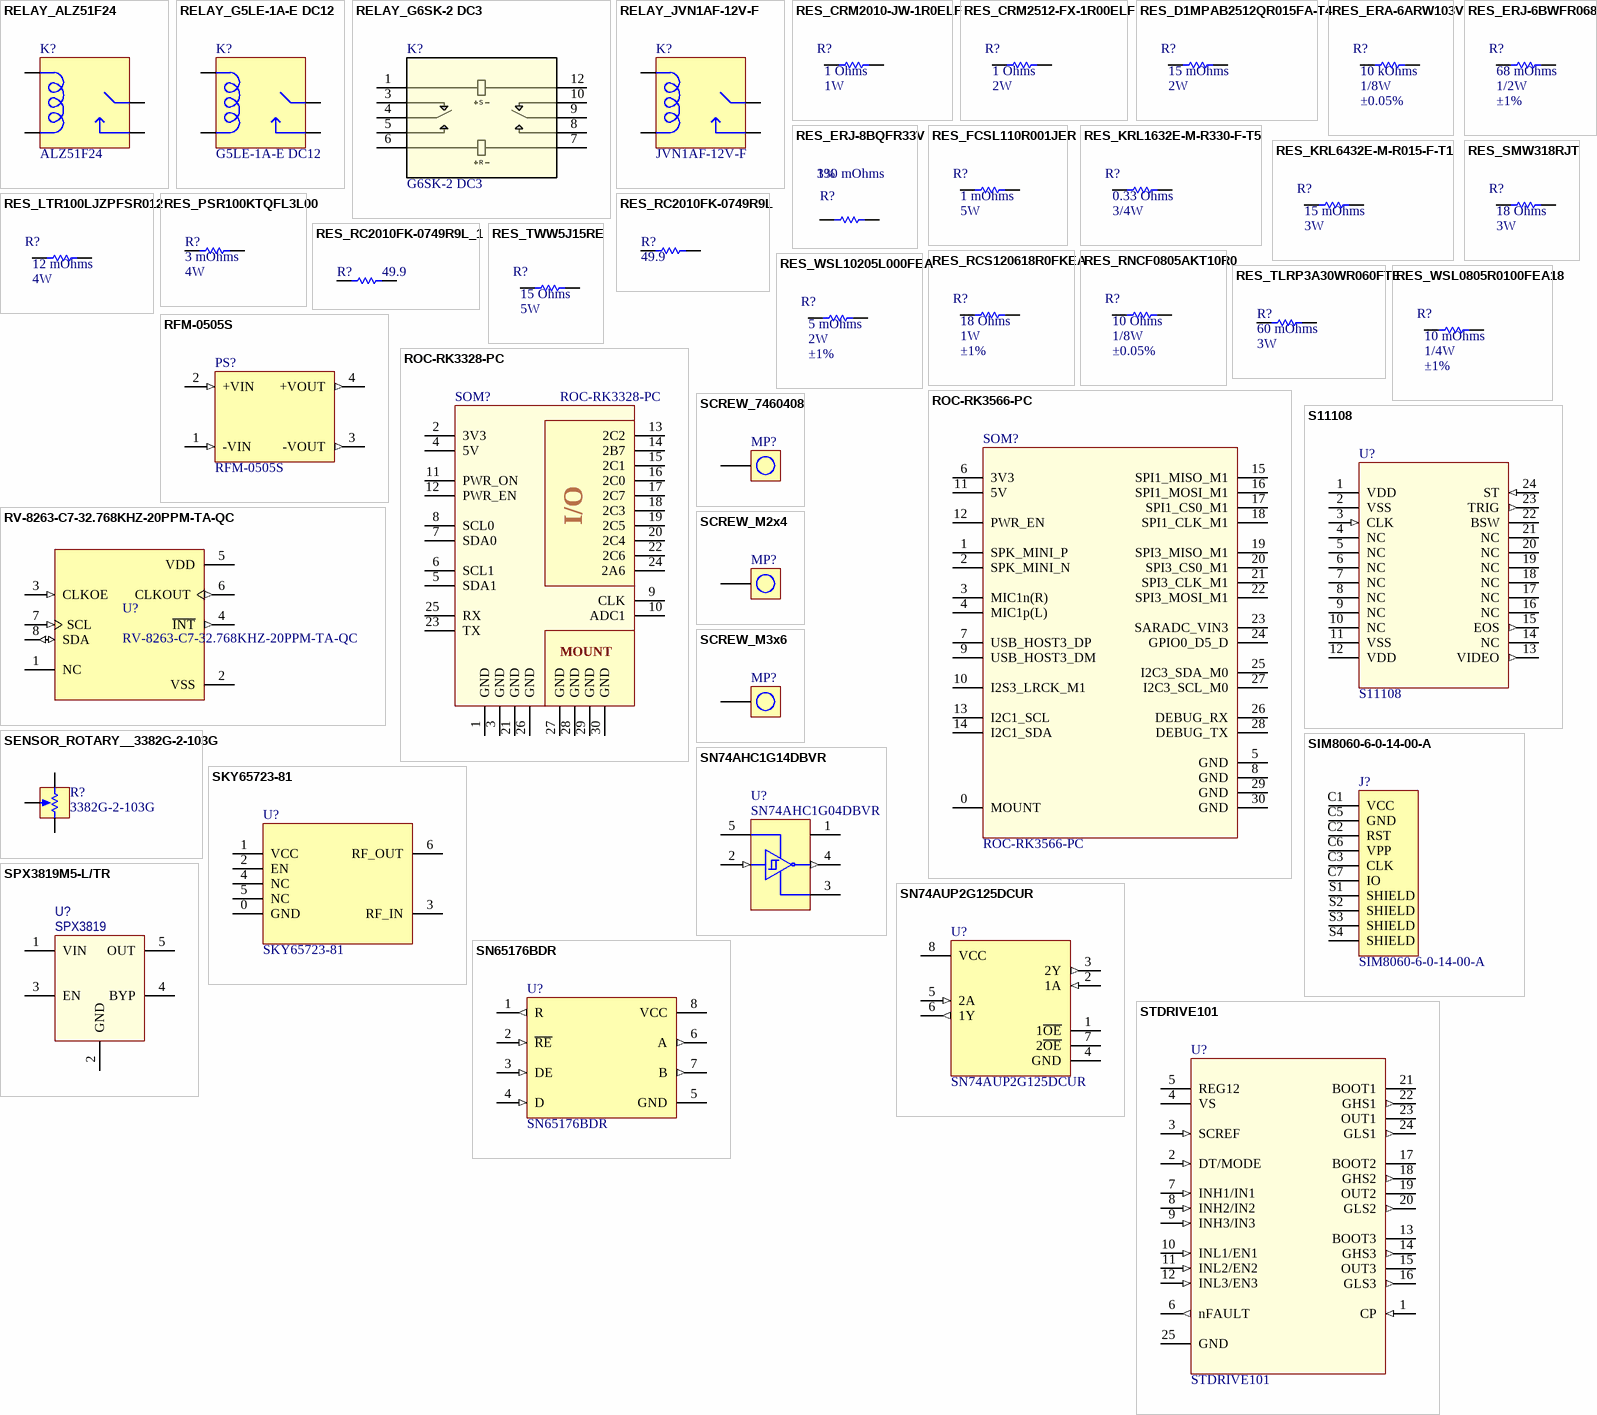
[diagram p16: symbols RELAY_ALZ51F24 to STDRIVE101]

## RELAY_ALZ51F24
designator K?, comment ALZ51F24
RELAY GEN PURPOSE SPST 16A 24V; Manufacturer: Panasonic Electric Works; Coil Voltage: 24VDC; Contact Form: SPST-NO (1 Form A); Switching Voltage: 440VAC - Max; Manufacturer Part Number: ALZ51F24; Contact Rating (Current): 16A
footprint RELAY_ALZ_A
pins: 1 C, 2 NO, 3 C1, 4 C2, 5 NO, 6 C

## RELAY_G5LE-1A-E DC12
designator K?, comment G5LE-1A-E DC12
RELAY GEN PURPOSE SPST 16A 12V; Manufacturer: Omron Electronics Inc-EMC Div; Coil Voltage: 12VDC; Contact Form: SPST-NO (1 Form A); Manufacturer Part Number: G5LE-1A-E DC12; Contact Rating (Current): 16A
footprint Relay_G5LE
pins: 1 COM, 2 C, 3 NO, 5 C

## RELAY_G6SK-2 DC3
designator K?, comment G6SK-2 DC3
RELAY TELECOM DPDT 2A 3V; Manufacturer: Omron Electronics Inc-EMC Div; LCSC Part: C2896754; Manufacturer Part Number: G6SK-2 DC3
footprint RELAY_G6SK-2_OMR
pins: 1, 3, 4, 5, 6, 7, 8, 9, 10, 12
text: S; R

## RELAY_JVN1AF-12V-F
designator K?, comment JVN1AF-12V-F
RELAY GEN PURPOSE SPST 16A 12V; Manufacturer: Panasonic Electric Works; Coil Voltage: 12VDC; Contact Form: SPST-NO (1 Form A); Manufacturer Part Number: JVN1AF-12V-F; Contact Rating (Current): 16A
footprint Relay_JV_N (Footprint not found)
pins: 1 C, 2 C, 3 COM, 4 NO

## RES_CRM2010-JW-1R0ELF
designator R?, comment Power (Watts): 1W  Resistance: 1 Ohms  (hidden comment: CRM2010-JW-1R0ELF)
RES SMD 1 OHM 5% 1W 2010; Manufacturer: Bourns Inc.; Manufacturer Part Number: CRM2010-JW-1R0ELF; Datasheet: https://connect.kemet.com:7667/gateway/IntelliData-ComponentDocumentation/1.0/download/datasheet/R76PD1220SE00K; Tolerance: ±5%; LCSC Part: C161983
footprint RES_2010 (0.197" L x 0.098" W (5.00mm x 2.50mm))
pins: 1, 2

## RES_CRM2512-FX-1R00ELF
designator R?, comment Power (Watts): 2W  Resistance: 1 Ohms  (hidden comment: CRM2512-FX-1R00ELF)
RES SMD 1 OHM 1% 2W 2512; Manufacturer: Bourns Inc.; Manufacturer Part Number: CRM2512-FX-1R00ELF; Tolerance: ±1%
footprint RES_2512 (0.250" L x 0.120" W (6.35mm x 3.05mm))
pins: 1, 2

## RES_D1MPAB2512QR015FA-T4
designator R?, comment Power (Watts): 2W  Resistance: 15 mOhms  (hidden comment: D1MPAB2512QR015FA-T4)
RES 0.015 OHM 1% 2W 2512; Manufacturer: Thin Film Technology Corp.; Manufacturer Part Number: D1MPAB2512QR015FA-T4; Tolerance: ±1%; LCSC Part: C493475
footprint RES_2512 (0.250" L x 0.120" W (6.35mm x 3.05mm))
pins: 1, 2

## RES_ERA-6ARW103V
designator R?, comment Tolerance: ±0.05%  Power (Watts): 1/8W  Resistance: 10 kOhms  (hidden comment: ERA-6ARW103V)
RES SMD 10K OHM 0.05% 1/8W 0805; Manufacturer: Panasonic Electronic Components; Manufacturer Part Number: ERA-6ARW103V
footprint RES_0805
pins: 1, 2

## RES_ERJ-6BWFR068V
designator R?, comment Tolerance: ±1%  Power (Watts): 1/2W  Resistance: 68 mOhms  (hidden comment: ERJ-6BWFR068V)
RES 0.068 OHM 1% 1/2W 0805; Manufacturer: Panasonic Electronic Components; Manufacturer Part Number: ERJ-6BWFR068V
footprint RES_0805
pins: 1, 2

## RES_ERJ-8BQFR33V
designator R?, comment Resistance: 330 mOhms  Tolerance: 1%  (hidden comment: ERJ-8BQFR33V)
RES 0.33 OHM 1% 1/2W 1206; Manufacturer: Panasonic; Temperature Coefficient: 250ppm/°C; Power Rating: 330mW; Max Power Dissipation: 500mW; Supplier 1: Avnet; Manufacturer Part Number: ERJ-8BQFR33V; Stock 1: 0; Pricing 1: 5000=0.0467, 10000=0.0458, 20000=0.0448, 30000=0.0437, 40000=0.0428 (USD); Mount: Surface Mount; Case/Package: 1206; Number of Pins: 2; Contact Plating: Tin; Case Code (Imperial): 1206; Case Code (Metric): 3216; Min Operating Temperature: -55°C; Max Operating Temperature: 125°C; Resistor Type: Thick Film,Low-Ohm-Resistor; Package Quantity: 5000; Packaging: Tape and Reel; Series: ERJ; Termination: SMD/SMT; Number of Terminations: 2; Features: Automotive AEC-Q200; Technology: THICK FILM; Resistance Tolerance: 1%; Length: 3.2mm; Width: 1.6mm; Height: 0.6mm; Depth: 1.6mm; Ratings: AEC-Q200; Radiation Hardening: No; Reach SVHC Compliant: No; RoHS Compliant: Yes; ComponentLink1URL: https://datasheet.ciiva.com/11818/0900766b80eefa12-11818652.pdf?src-supplier=Rs; ComponentLink1Description: https://datasheet.ciiva.com/11818/0900766b80eefa12-11818652.pdf?src-supplier=Rs; ComponentLink2URL: https://datasheet.ciiva.com/48516/erj-eng-tds-48516634.pdf?src-supplier=Distrelec; ComponentLink2Description: https://datasheet.ciiva.com/48516/erj-eng-tds-48516634.pdf?src-supplier=Distrelec; ComponentLink3URL: https://datasheet.ciiva.com/6064/391509-6064714.pdf?src-supplier=Farnell; ComponentLink3Description: https://datasheet.ciiva.com/6064/391509-6064714.pdf?src-supplier=Farnell; ComponentLink4URL: https://datasheet.ciiva.com/7710/391509-7710826.pdf?src-supplier=Element14; ComponentLink4Description: https://datasheet.ciiva.com/7710/391509-7710826.pdf?src-supplier=Element14; ComponentLink5URL: https://datasheet.ciiva.com/6064/391509-6064716.pdf?src-supplier=Farnell; ComponentLink5Description: https://datasheet.ciiva.com/6064/391509-6064716.pdf?src-supplier=Farnell; ComponentLink6URL: https://datasheet.ciiva.com/7710/391509-7710825.pdf?src-supplier=Element14; ComponentLink6Description: https://datasheet.ciiva.com/7710/391509-7710825.pdf?src-supplier=Element14; Supplier Part Number 1: ERJ-8BQFR33V
footprint RES_1206 (Chip Resistor; Body 3.2 x 1.6 mm (LxW typ))
pins: 1, 2

## RES_FCSL110R001JER
designator R?, comment Power (Watts): 5W  Resistance: 1 mOhms  (hidden comment: FCSL110R001JER)
RES 0.001 OHM 5W 4320 WIDE; Manufacturer: Ohmite; Tolerance: ±1%; Manufacturer Part Number: FCSL110R001JER
footprint RES_4320_W (0.197" L x 0.433" W (5.00mm x 11.00mm))
pins: 1, 2

## RES_KRL1632E-M-R330-F-T5
designator R?, comment Power (Watts): 3/4W  Resistance: 0.33 Ohms  (hidden comment: KRL1632E-M-R330-F-T5)
RES 0.33 OHM 1% 3/4W 1206; Manufacturer: Susumu; Manufacturer Part Number: KRL1632E-M-R330-F-T5; Tolerance: ±1%
footprint RES_1206 (Chip Resistor; Body 3.2 x 1.6 mm (LxW typ))
pins: 1, 2

## RES_KRL6432E-M-R015-F-T1
designator R?, comment Power (Watts): 3W  Resistance: 15 mOhms  (hidden comment: KRL6432E-M-R015-F-T1)
RES 0.015 OHM 3W 2512 WIDE; Manufacturer: Susumu; Tolerance: ±1%; Manufacturer Part Number: KRL6432E-M-R015-F-T1; Datasheet: https://www.susumu.co.jp/common/pdf/n_catalog_partition19_en.pdf
footprint RES_2512_W (0.122" L x 0.248" W (3.10mm x 6.30mm))
pins: 1, 2

## RES_LTR100LJZPFSR012
designator R?, comment Power (Watts): 4W  Resistance: 12 mOhms  (hidden comment: LTR100LJZPFSR012)
RES 0.012 OHM 4W 2512 WIDE; Manufacturer: Rohm Semiconductor; Tolerance: ±1%; Manufacturer Part Number: LTR100LJZPFSR012
footprint RES_2512_W (0.122" L x 0.248" W (3.10mm x 6.30mm))
pins: 1, 2

## RES_PSR100KTQFL3L00
designator R?, comment Power (Watts): 4W  Resistance: 3 mOhms  (hidden comment: PSR100KTQFL3L00)
RES 0.003 OHM 1% 3W 2512; Manufacturer: Rohm Semiconductor; Manufacturer Part Number: PSR100KTQFL3L00; Datasheet: https://fscdn.rohm.com/en/products/databook/datasheet/passive/resistor/chip_resistor/psr-e.pdf; Tolerance: ±1%
footprint RES_2512 (0.250" L x 0.120" W (6.35mm x 3.05mm))
pins: 1, 2

## RES_RC2010FK-0749R9L
designator R?, comment Resistance: 49.9  (hidden comment: RC2010FK-0749R9L)
RES 49.9 OHM 1% 3/4W 2010; Manufacturer: YAGEO; Power (Watts): 0.75W, 3/4W; Manufacturer Part Number: RC2010FK-0749R9L; Tolerance: ±1%; LCSC Part: C326716
footprint RES_2010 (0.197" L x 0.098" W (5.00mm x 2.50mm))
pins: 1, 2

## RES_RC2010FK-0749R9L_1
designator R?, comment Resistance: 49.9  (hidden comment: RC2010FK-0749R9L)
RES 49.9 OHM 1% 3/4W 2010; Manufacturer: YAGEO; Power (Watts): 0.75W, 3/4W; Manufacturer Part Number: RC2010FK-0749R9L; Tolerance: ±1%; LCSC Part: C326716
footprint RES_2010 (0.197" L x 0.098" W (5.00mm x 2.50mm))
pins: 1, 2

## RES_RCS120618R0FKEA
designator R?, comment Tolerance: ±1%  Power (Watts): 1W  Resistance: 18 Ohms  (hidden comment: RCS120618R0FKEA)
RES 18 OHM 1% 1W 1206; Manufacturer: Vishay Dale; Manufacturer Part Number: RCS120618R0FKEA
footprint RES_1206 (Chip Resistor; Body 3.2 x 1.6 mm (LxW typ))
pins: 1, 2

## RES_RNCF0805AKT10R0
designator R?, comment Tolerance: ±0.05%  Power (Watts): 1/8W  Resistance: 10 Ohms  (hidden comment: RNCF0805AKT10R0)
RES SMD 10 OHM 0.05% 1/8W 0805; Manufacturer: Stackpole Electronics Inc; Manufacturer Part Number: RNCF0805AKT10R0
footprint RES_0805
pins: 1, 2

## RES_SMW318RJT
designator R?, comment Power (Watts): 3W  Resistance: 18 Ohms  (hidden comment: SMW318RJT)
RES SMD 18 OHM 5% 3W 4122; Manufacturer: TE Connectivity Passive Product; Manufacturer Part Number: SMW318RJT; Tolerance: ±5%
footprint RES_4122 (0.413" L x 0.217" W (10.50mm x 5.50mm))
pins: 1, 2

## RES_TLRP3A30WR060FTE
designator R?, comment Power (Watts): 3W  Resistance: 60 mOhms  (hidden comment: TLRP3A30WR060FTE)
RES 0.06 OHM 1% 3W 2512; Manufacturer: TE Connectivity Passive Product; Manufacturer Part Number: TLRP3A30WR060FTE; Tolerance: ±1%
footprint RES_2512 (0.250" L x 0.120" W (6.35mm x 3.05mm))
pins: 1, 2

## RES_TWW5J15RE
designator R?, comment Power (Watts): 5W  Resistance: 15 Ohms  (hidden comment: TWW5J15RE)
RES 15 OHM 5% 5W RADIAL; Manufacturer: Ohmite; Manufacturer Part Number: TWW5J15RE; Tolerance: ±5%; LCSC Part: C2646509
footprint RES_12.50MM X 9.00MM (0.492" L x 0.354" W (12.50mm x 9.00mm))
pins: 1, 2

## RES_WSL0805R0100FEA18
designator R?, comment Tolerance: ±1%  Power (Watts): 1/4W  Resistance: 10 mOhms  (hidden comment: WSL0805R0100FEA18)
RES 0.01 OHM 1% 1/4W 0805; Manufacturer: Vishay Dale; Manufacturer Part Number: WSL0805R0100FEA18
footprint RES_0805
pins: 1, 2

## RES_WSL10205L000FEA
designator R?, comment Tolerance: ±1%  Power (Watts): 2W  Resistance: 5 mOhms  (hidden comment: WSL10205L000FEA)
RES 0.005 OHM 1% 2W 2010; Manufacturer: Vishay Dale; Manufacturer Part Number: WSL10205L000FEA; Datasheet: https://www.vishay.com/docs/30183/wslwide.pdf
footprint RES_2010_W (0.200" L x 0.100" W (5.08mm x 2.54mm))
pins: 1, 2

## RFM-0505S
designator PS?
DC DC CONVERTER 5V 1W; Manufacturer: Recom Power; Manufacturer Part Number: RFM-0505S; Datasheet: https://recom-power.com/pdf/Econoline/RFM.pdf
footprint RFM-0505S (0.45" L x 0.24" W x 0.39" H (11.5mm x 6.0mm x 10.0mm))
pins: 1 -VIN (in), 2 +VIN (in), 3 -VOUT (out), 4 +VOUT (out)

## ROC-RK3328-PC
designator SOM?
Quad-core 64-bit Mini PC; Manufacturer: Firefly; Manufacturer Part Number: ROC-RK3328-PC; Datasheet: https://download.t-firefly.com/产品规格文档/开源主板/ROC-RK3328-PC_Quad-core%2064-bit%20Mini%20PC_Specification.pdf?v=1688453152
footprint ROC-RK3328-PC
pins: 1 GND, 2 3V3, 3 GND, 4 5V, 5 SDA1, 6 SCL1, 7 SDA0, 8 SCL0, 9 CLK, 10 ADC1, 11 PWR_ON, 12 PWR_EN, 13 2C2, 14 2B7, 15 2C1, 16 2C0, 17 2C7, 18 2C3, 19 2C5, 20 2C4, 21 GND, 22 2C6, 23 TX, 24 2A6, 25 RX, 26 GND, 27 GND, 28 GND, 29 GND, 30 GND
text: I/O; MOUNT

## ROC-RK3566-PC
designator SOM?
Quad-core 64-bit Mini PC; Manufacturer: Firefly; Manufacturer Part Number: ROC-RK3566-PC; Datasheet: https://download.t-firefly.com/%E4%BA%A7%E5%93%81%E8%A7%84%E6%A0%BC%E6%96%87%E6%A1%A3/%E5%BC%80%E6%BA%90%E4%B8%BB%E6%9D%BF/ROC-RK3566-PC%20Specification.pdf
footprint ROC-RK3566-PC
pins: 0 MOUNT, 1 SPK_MINI_P, 2 SPK_MINI_N, 3 MIC1n(R), 4 MIC1p(L), 5 GND, 6 3V3, 7 USB_HOST3_DP, 8 GND, 9 USB_HOST3_DM, 10 I2S3_LRCK_M1, 11 5V, 12 PWR_EN, 13 I2C1_SCL, 14 I2C1_SDA, 15 SPI1_MISO_M1, 16 SPI1_MOSI_M1, 17 SPI1_CS0_M1, 18 SPI1_CLK_M1, 19 SPI3_MISO_M1, 20 SPI3_CS0_M1, 21 SPI3_CLK_M1, 22 SPI3_MOSI_M1, 23 SARADC_VIN3, 24 GPIO0_D5_D, 25 I2C3_SDA_M0, 26 DEBUG_RX, 27 I2C3_SCL_M0, 28 DEBUG_TX, 29 GND, 30 GND

## RV-8263-C7-32.768KHZ-20PPM-TA-QC
designator U?
IC RTC CLK/CALENDAR I2C 8SON; Manufacturer: Micro Crystal; Manufacturer Part Number: RV-8263-C7-32.768KHZ-20PPM-TA-QC
footprint IC_RV-8263-C7-32.768KHZ-20PPM-TA-QC
pins: 1 NC, 2 VSS (power), 3 CLKOE (in), 4 ~{INT} (out), 5 VDD (power), 6 CLKOUT (out), 7 SCL (in), 8 SDA (io)

## S11108
designator U?
Image Sensor, 14µm x 14µm, LCP, 24 Pins, 4.75 V; Manufacturer: Hamamatsu; Manufacturer Part Number: S11108
footprint DIP24_S11108_HAM
pins: 1 VDD (power), 2 VSS (power), 3 CLK (in), 4 NC, 5 NC, 6 NC, 7 NC, 8 NC, 9 NC, 10 NC, 11 VSS (power), 12 VDD (power), 13 VIDEO (out), 14 NC, 15 EOS (out), 16 NC, 17 NC, 18 NC, 19 NC, 20 NC, 21 NC, 22 BSW, 23 TRIG (out), 24 ST (in)

## SCREW_7460408
designator MP?, comment 7460408  (value not drawn)
TERM REDCUBE M5 12PIN PCB; Manufacturer: Würth Elektronik; Manufacturer Part Number: 7460408
footprint 7460408_chemical surface (M5, thr 6mm)
pins: 1

## SCREW_M2x4
designator MP?, comment RM2X8MM 2701  (value not drawn)
MACH SCREW PAN HEAD PHILLIPS M2; Manufacturer: APM Hexseal; Manufacturer Part Number: RM2X8MM 2701
footprint SCREW_M2X4
pins: 1

## SCREW_M3x6
designator MP?, comment RM3X6MM 2701  (value not drawn)
MACH SCREW PAN HEAD PHILLIPS M3; Manufacturer: APM Hexseal; Manufacturer Part Number: RM3X6MM 2701
footprint SCREW_M3X6
pins: 1

## SENSOR_ROTARY__3382G-2-103G
designator R?, comment 3382G-2-103G
SENSOR ROTARY 330DEG SMD; Manufacturer: Bourns; Manufacturer Part Number: 3382G-2-103G; LCSC Part: C2153636
footprint SENSOR_ROTARY__3382G-2
pins: 1 TOP, 2 TAP, 3 BOT

## SIM8060-6-0-14-00-A
designator J?
SIM NANO HINGED, 6P, 1.40MM PROF; Manufacturer: GCT; Manufacturer Part Number: SIM8060-6-0-14-00-A
footprint GCT_SIM8060-6-0-14-00-A
pins: C1 VCC, C2 RST, C3 CLK, C5 GND, C6 VPP, C7 IO, S1 SHIELD, S2 SHIELD, S3 SHIELD, S4 SHIELD

## SKY65723-81
designator U?
IC AMP BDS 1.559-1.606GHZ 6MCM; Manufacturer: Skyworks Solutions Inc.; Manufacturer Part Number: SKY65723-81; LCSC Part: C2654196
footprint 6-DFN Exposed Pad (6-MCM (1.7x2.3))
pins: 0 GND, 1 VCC, 2 EN, 3 RF_IN, 4 NC, 5 NC, 6 RF_OUT

## SN74AHC1G14DBVR
designator U?, comment SN74AHC1G04DBVR
IC INVERTER 1CH 1-INP SOT23-5; Manufacturer: Texas Instruments; Manufacturer Part Number: SN74AHC1G04DBVR; LCSC Part: C7465
footprint SOT-23-5 (SC-74A, SOT-753)
pins: 1 NC, 2 A (in), 3 GND (power), 4 Y (out), 5 VCC (power)

## SN74AUP2G125DCUR
designator U?
IC BUFFER NON-INVERT 3.6V 8VSSOP; Manufacturer: Texas Instruments; Manufacturer Part Number: SN74AUP2G125DCUR; LCSC Part: C2862074
footprint 8-VSSOP (8-VFSOP (0.091", 2.30mm Width))
pins: 1 1~{OE} (power), 2 1A (in), 3 2Y (out), 4 GND (power), 5 2A (in), 6 1Y (out), 7 2~{OE} (power), 8 VCC (power)

## SN65176BDR
designator U?
IC TRANSCEIVER HALF 1/1 8SOIC; Manufacturer: Texas Instruments; Manufacturer Part Number: SN65176BDR
footprint SOIC-8 (0.154", 3.90mm Width)
pins: 1 R (out), 2 ~{RE} (in), 3 DE (in), 4 D (in), 5 GND (power), 6 A (out), 7 B (out), 8 VCC (power)

## SPX3819M5-L/TR
designator U?, comment SPX3819
IC REG LIN POS ADJ 500MA SOT23-5; Manufacturer Part Number: SPX3819M5-L/TR; Manufacturer: MaxLinear, Inc.; LCSC Part: C9056
footprint SOT-23-5 (SC-74A, SOT-753)
pins: 1 VIN, 2 GND, 3 EN, 4 BYP, 5 OUT

## STDRIVE101
designator U?
IC HALF BRIDGE DRIVER 24VFQFPN; Manufacturer: STMicroelectronics; Manufacturer Part Number: STDRIVE101; LCSC Part: C2969847
footprint 24-VFQFN Exposed Pad (24-QFN (4x4))
pins: 1 CP (in), 2 DT/MODE (in), 3 SCREF (in), 4 VS (power), 5 REG12 (power), 6 nFAULT (out), 7 INH1/IN1 (in), 8 INH2/IN2 (in), 9 INH3/IN3 (in), 10 INL1/EN1 (in), 11 INL2/EN2 (in), 12 INL3/EN3 (in), 13 BOOT3 (power), 14 GHS3 (out), 15 OUT3 (power), 16 GLS3 (out), 17 BOOT2 (power), 18 GHS2 (out), 19 OUT2 (power), 20 GLS2 (out), 21 BOOT1 (power), 22 GHS1 (out), 23 OUT1 (power), 24 GLS1 (out), 25 GND (power)

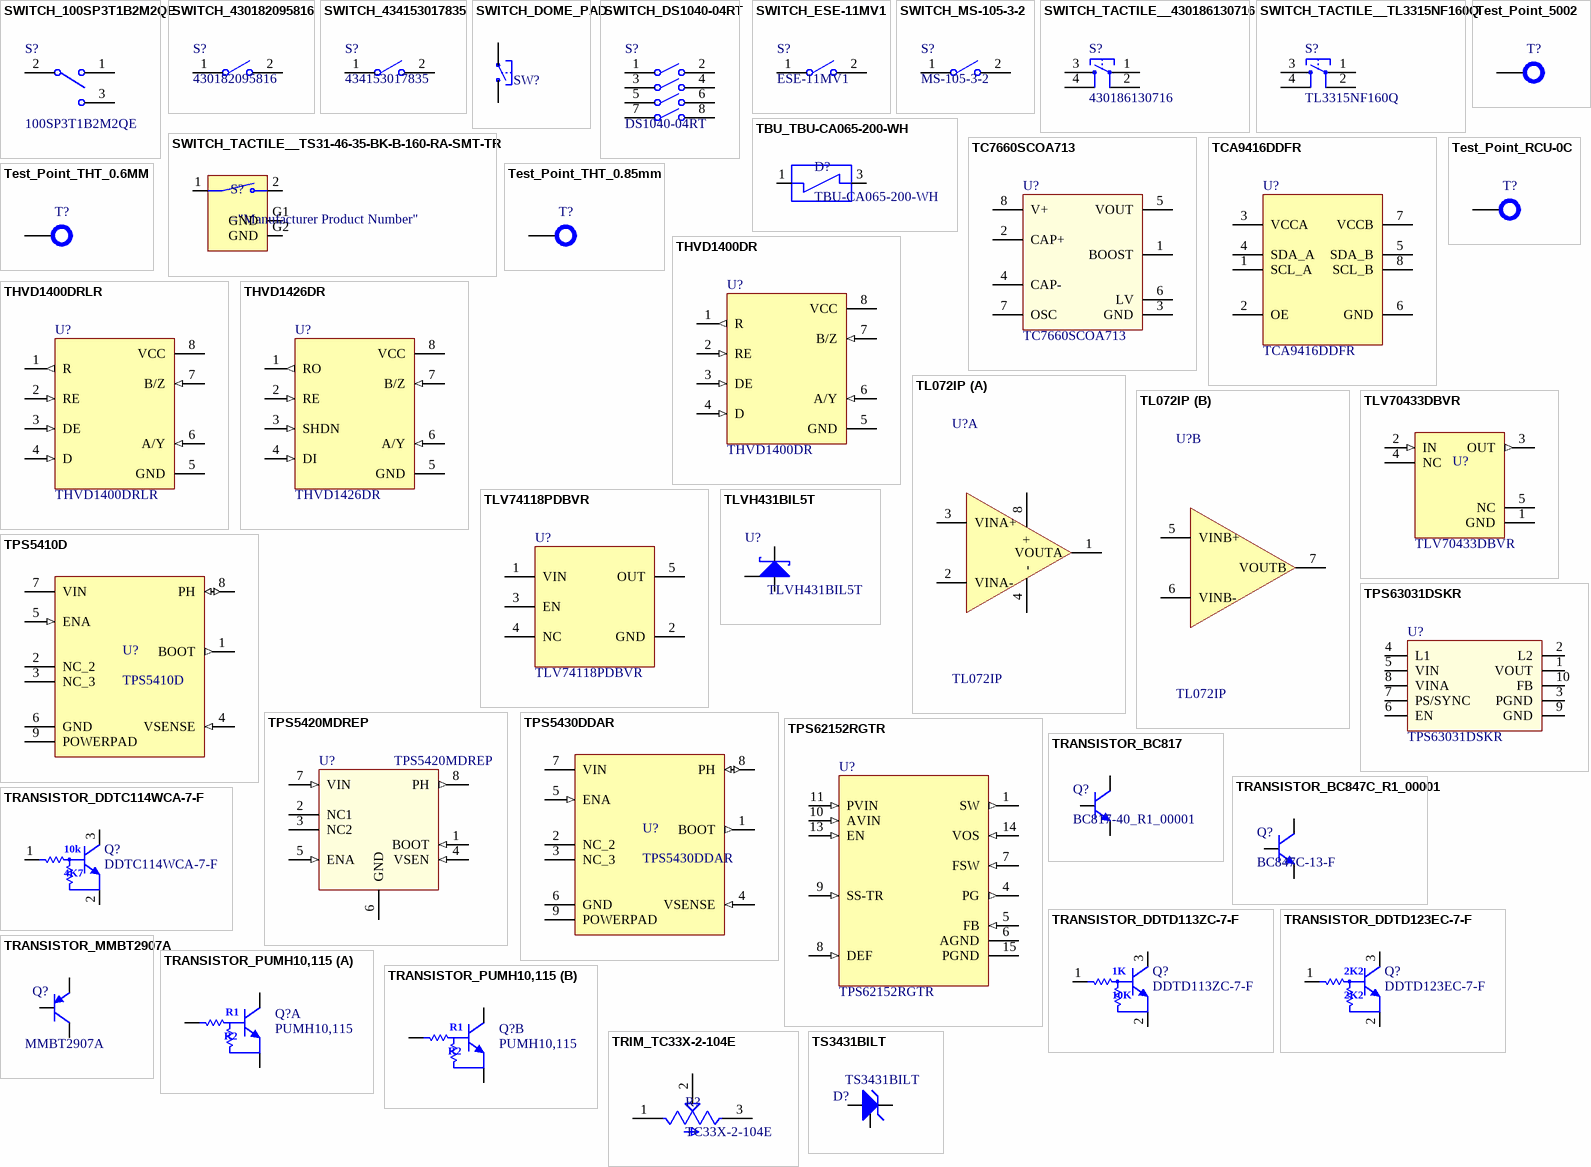
[diagram p17: symbols SWITCH_100SP3T1B2M2QE to TS3431BILT]

## SWITCH_100SP3T1B2M2QE
designator S?, comment 100SP3T1B2M2QE
SWITCH TOGGLE SPDT 5A 120V; Manufacturer: E-Switch; Manufacturer Part Number: 100SP3T1B2M2QE
footprint SWITCH_100SP3T1B2M2QE
pins: 1, 2, 3

## SWITCH_430182095816
designator S?, comment 430182095816
SWITCH TACTILE SPST-NO 0.05A 12V; Manufacturer: Würth Elektronik; Manufacturer Part Number: 430182095816; LCSC Part: C7185035
footprint WS-TASV_L6W6H9.5_4301x20958x6 (SMD Tact Switch, body 6x6mm)
pins: 1, 2, 3, 4

## SWITCH_434153017835
designator S?, comment 434153017835
SWITCH TACTILE SPST-NO 0.05A 12V; Manufacturer: Würth Elektronik; Manufacturer Part Number: 434153017835; Datasheet: https://www.we-online.com/katalog/datasheet/434153017835.pdf
footprint WS-TASV_L3.5W2.9H1.7_434153017835 (Tact Switch, SMD, body 3.5x2.9mm)
pins: 1, 2, 3, 4

## SWITCH_DOME_PAD
designator SW?  (value not drawn)  (no BOM)
Dome switch pad
footprint SWITCH_DOME_PAD__4X3
pins: 1, 2

## SWITCH_DS1040-04RT
designator S?, comment DS1040-04RT
SWITCH SLIDE DIP SPST 100MA 24V; Manufacturer: CONNFLY; Manufacturer Part Number: DS1040-04RT
footprint SWITCH_DS1040-04RT
pins: 1, 2, 3, 4, 5, 6, 7, 8

## SWITCH_ESE-11MV1
designator S?, comment ESE-11MV1
SWITCH DETECTOR SPST-NO 0.01A 5V; Manufacturer: Panasonic Electronic Components; Manufacturer Part Number: ESE-11MV1
footprint ESE-11MV1
pins: 1, 2

## SWITCH_MS-105-3-2
designator S?, comment MS-105-3-2
MINIATURE REED SENSOR PITCH 12.7; Manufacturer: PIC GmbH; Manufacturer Part Number: MS-105-3-2
footprint MS-105-3-2 (Footprint not found)
pins: 1, 2

## SWITCH_TACTILE__430186130716
designator S?, comment 430186130716
SWITCH TACTILE SPST-NO 0.05A 12V; Manufacturer: Würth Elektronik; Manufacturer Part Number: 430186130716
footprint Tact_THD_430186130716 (6x6mm Tact Switch, THT version)
pins: 1, 2, 3, 4

## SWITCH_TACTILE__TL3315NF160Q
designator S?, comment TL3315NF160Q
SWITCH TACTILE SPST-NO 0.05A 15V; Manufacturer: E-SWITCH; Manufacturer Part Number: TL3315NF160Q; LCSC Part: C2886877
footprint Tact_THD_4.5x4.5__0.55mm
pins: 1, 2, 3, 4

## SWITCH_TACTILE__TS31-46-35-BK-B-160-RA-SMT-TR
designator S?
4.6 X 1.8 MM, 1.2 MM ACTUATOR HE; Manufacturer: Same Sky (Formerly CUI Devices); Manufacturer Part Number: TS31-46-35-BK-B-160-RA-SMT-TR; LCSC Part: Unavailable
footprint SW_TS31-46-35-BK-B-160-RA-SMT-TR (Footprint not found)
pins: 1, 2, G1 GND (power), G2 GND (power)

## TBU_TBU-CA065-200-WH
designator D?, comment TBU-CA065-200-WH
SURGE SUPP TBU 200MA 650VIMP SMD; Manufacturer: Bourns; Manufacturer Part Number: TBU-CA065-200-WH
footprint 3-SMD (3-SMD (6.5x4))
pins: 1 (io), 3 (io)

## TC7660SCOA713
designator U?
IC REG CHARG PUMP INV 20MA 8SOIC; Manufacturer: Microchip Technology; Manufacturer Part Number: TC7660SCOA713; LCSC Part: C625016
footprint SOIC-8 (0.154", 3.90mm Width)
pins: 1 BOOST, 2 CAP+, 3 GND, 4 CAP-, 5 VOUT, 6 LV, 7 OSC, 8 V+

## TCA9416DDFR
designator U?
IC XLTR VL BIDIR TSOT-23-8; Manufacturer: Texas Instruments; LCSC Part: C4364143; Manufacturer Part Number: TCA9416DDFR
footprint TSOT-23-8 (Footprint not found)
pins: 1 SCL_A, 2 OE, 3 VCCA, 4 SDA_A, 5 SDA_B, 6 GND, 7 VCCB, 8 SCL_B

## Test_Point_5002
designator T?, comment 5002  (value not drawn)
PC TEST POINT MINIATURE WHITE; Manufacturer: Keystone Electronics; Manufacturer Part Number: 5002; LCSC Part: C238123
footprint Test_Point_5002 (0.040" (1.02mm))
pins: TP 1

## Test_Point_RCU-0C
designator T?, comment RCU-0C  (value not drawn)
PC TEST POINT NATURAL; Manufacturer: TE Connectivity AMP Connectors; Manufacturer Part Number: RCU-0C
footprint Test_Point_1.60MMx0.80mm (0.063" L x 0.032" W (1.60mm x 0.80mm))
pins: TP 1

## Test_Point_THT_0.6MM
designator T?, comment DNP  (value not drawn)  (no BOM)
TEST POINT 0.6MM; Manufacturer Part Number: DNP; Manufacturer: DNP
footprint Test_Point_THT_0.6MM (0.6mm)
pins: TP 1

## Test_Point_THT_0.85mm
designator T?, comment DNP  (value not drawn)  (no BOM)
TEST POINT 0.85MM; Manufacturer Part Number: DNP; Manufacturer: DNP
footprint Test_Point_THT_0.85MM (0.85mm)
pins: TP 1

## THVD1400DR
designator U?
IC TRANSCEIVER HALF 1/1 8SOIC; Manufacturer: Texas Instruments; Manufacturer Part Number: THVD1400DR; LCSC Part: C3235232
footprint SOIC-8 (0.154", 3.90mm Width)
pins: 1 R (out), 2 RE (in), 3 DE (in), 4 D (in), 5 GND (power), 6 A/Y (in), 7 B/Z (in), 8 VCC (power)

## THVD1400DRLR
designator U?
IC TRANSCEIVER HALF 1/1 SOT583; Manufacturer: Texas Instruments; Manufacturer Part Number: THVD1400DRLR; LCSC Part: C3235289
footprint SOT-583
pins: 1 R (out), 2 RE (in), 3 DE (in), 4 D (in), 5 GND (power), 6 A/Y (in), 7 B/Z (in), 8 VCC (power)

## THVD1426DR
designator U?
IC TRANSCEIVER HALF 1/1 8SOIC; Manufacturer: Texas Instruments; Manufacturer Part Number: THVD1426DR; LCSC Part: C5215921
footprint SOIC-8 (0.154", 3.90mm Width)
pins: 1 RO (out), 2 RE (in), 3 SHDN (in), 4 DI (in), 5 GND (power), 6 A/Y (in), 7 B/Z (in), 8 VCC (power)

## TL072IP
designator U?
IC OPAMP JFET 2 CIRCUIT 8DIP; Manufacturer: Texas Instruments; Manufacturer Part Number: TL072IP
footprint 8-DIP (8-DIP (0.300", 7.62mm))
part A pins: 1 VOUTA, 2 VINA-, 3 VINA+, 4 -, 8 +
part B pins: 5 VINB+, 6 VINB-, 7 VOUTB

## TLV70433DBVR
designator U?
IC REG LINEAR 3.3V 150MA SOT23-5; Manufacturer: Texas Instruments; Manufacturer Part Number: TLV70433DBVR; LCSC Part: C94917
footprint SOT-23-5 (SC-74A, SOT-753)
pins: 1 GND (power), 2 IN (in), 3 OUT (out), 4 NC, 5 NC

## TLV74118PDBVR
designator U?
IC REG LINEAR 1.8V 150MA SOT23-5; Manufacturer: Texas Instruments; Manufacturer Part Number: TLV74118PDBVR; LCSC Part: C469873
footprint SOT-23-5 (SC-74A, SOT-753)
pins: 1 VIN, 2 GND, 3 EN, 4 NC, 5 OUT

## TLVH431BIL5T
designator U?
IC VREF SHUNT ADJ 0.25% SOT23-5; Manufacturer: STMicroelectronics; Manufacturer Part Number: TLVH431BIL5T
footprint SOT-23-5 (SC-74A, SOT-753)
pins: 1 NC hidden, 2 NC hidden, 3 K, 4 A, 5 A

## TPS5410D
designator U?
IC REG BUCK ADJUSTABLE 1A 8SOIC; Manufacturer: Texas Instruments; Manufacturer Part Number: TPS5410D; Datasheet: https://www.ti.com/general/docs/suppproductinfo.tsp?distId=10&gotoUrl=https%3A%2F%2Fwww.ti.com%2Flit%2Fgpn%2Ftps5410
footprint HSOP_8
pins: 1 BOOT (out), 2 NC_2, 3 NC_3, 4 VSENSE (in), 5 ENA (in), 6 GND (power), 7 VIN (power), 8 PH (io), 9 POWERPAD (power)

## TPS5420MDREP
designator U?
IC REG BUCK ADJUSTABLE 2A 8SOIC; Manufacturer: Texas Instruments; Manufacturer Part Number: TPS5420MDREP
footprint SOIC-8 (0.154", 3.90mm Width)
pins: 1 BOOT (in), 2 NC1, 3 NC2, 4 VSEN (in), 5 ENA (in), 6 GND (power), 7 VIN (in), 8 PH (out)

## TPS5430DDAR
designator U?
IC REG BUCK ADJUSTABLE 3A 8SOPWR; Manufacturer: Texas Instruments; Manufacturer Part Number: TPS5430DDAR; Datasheet: https://www.ti.com/lit/ds/symlink/tps5431.pdf?HQS=dis-dk-null-digikeymode-dsf-pf-null-wwe&ts=1684150949048&ref_url=https%253A%252F%252Fwww.ti.com%252Fgeneral%252Fdocs%252Fsuppproductinfo.tsp%253FdistId%253D10%2526gotoUrl%253Dhttps%253A%252F%252Fwww.ti.com%252Flit%252Fgpn%252Ftps5431; LCSC Part: C9864
footprint HSOP_8
pins: 1 BOOT (out), 2 NC_2, 3 NC_3, 4 VSENSE (in), 5 ENA (in), 6 GND (power), 7 VIN (power), 8 PH (io), 9 POWERPAD (power)

## TPS62152RGTR
designator U?
IC REG BUCK 3.3V 1A 16QFN; Manufacturer: Texas Instruments; Manufacturer Part Number: TPS62152RGTR
footprint 16-VFQFN Exposed Pad (Footprint not found)
pins: 1 SW (out), 2 SW (out) hidden to 1, 3 SW (out) hidden to 1, 4 PG (out), 5 FB (in), 6 AGND (power), 7 FSW (in), 8 DEF (in), 9 SS-TR (in), 10 AVIN (in), 11 PVIN (in), 12 PVIN (in) hidden to 11, 13 EN (in), 14 VOS (in), 15 PGND (power), 16 PGND (power) hidden to 15, 17 EP (power) hidden to 15

## TPS63031DSKR
designator U?
IC REG BUCK BST 3.3V 900MA 10SON; Manufacturer: Texas Instruments; Manufacturer Part Number: TPS63031DSKR; LCSC Part: C15516
footprint 10-WFDFN Exposed Pad (Footprint not found)
pins: 1 VOUT, 2 L2, 3 PGND, 4 L1, 5 VIN, 6 EN, 7 PS/SYNC, 8 VINA, 9 GND, 10 FB

## TRANSISTOR_BC817
designator Q?, comment BC817-40_R1_00001
TRANS NPN 45V 0.5A SOT323; Manufacturer: Panjit International Inc.; Current - Collector (Ic) (Max): 500 mA; Manufacturer Part Number: BC817-40_R1_00001; Voltage - Collector Emitter Breakdown (Max): 45 V; LCSC Part: C391420
footprint SOT-323 (SC-70, SOT-323)
pins: 1 B, 2 E, 3 C

## TRANSISTOR_BC847C_R1_00001
designator Q?, comment BC847C-13-F
TRANS NPN 45V 0.1A SOT23; Manufacturer: Panjit International Inc.; Current - Collector (Ic) (Max): 100 mA; Manufacturer Part Number: BC847C-13-F; Voltage - Collector Emitter Breakdown (Max): 45 V; LCSC Part: C526464
footprint SOT-23 (TO-236AB)
pins: 1 B, 2 E, 3 C